# Altium footprint library Isolated DC DC Converters.PcbLib: 6 footprints
Each footprint in its own frame and in the unit in brackets; x right, y up, seen from the top. Pads: shape width x height; smd on the part's side, far side on the other; paste and mask are expansions set on the pad; w line width, h text height; cw(c..) or ccw(c..) is an arc to the next point about the centre after c.
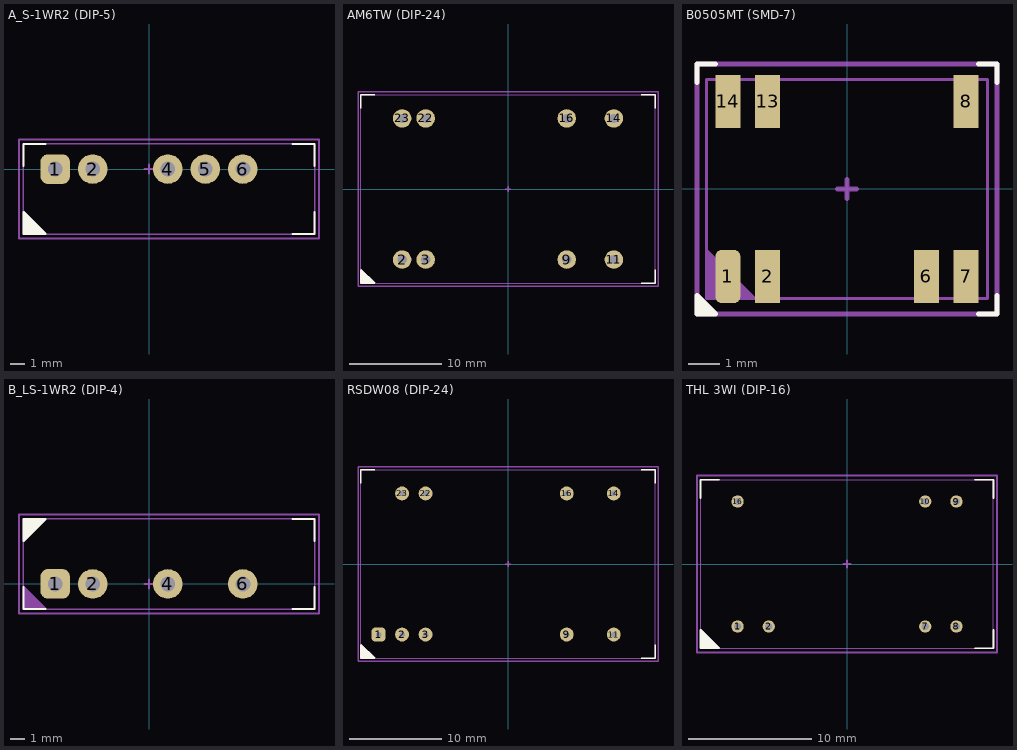
[diagram p0: the footprints below, top view; thin cyan lines are the x and y axes]

## A_S-1WR2 (DIP-5) [mm]
pads (5):
  rrect50% 2x2 hole 1: 1(-6.35,0)
  round 2 hole 1: 2(-3.81,0) 4(1.27,0) 5(3.81,0) 6(6.35,0)
Top Overlay:
  region: -8.5,-2.9 -8.5,-4.4 -7,-4.4
  lines w0.153: -8.5,0.2 -8.5,1.7 -7,1.7 ; 9.7,-4.4 11.2,-4.4 11.2,-2.9 ; 9.7,1.7 11.2,1.7 11.2,0.2 ; -8.5,-4.4 -7,-4.4 -8.5,-2.9 -8.5,-4.4
Top Assembly:
  region: -8.5,-4.4 -6.9,-4.4 -8.5,-2.8
  lines w0.1: -8.5,-4.4 11.2,-4.4 11.2,1.7 -8.5,1.7 -8.5,-4.4
  text "'.Designator'" at -4.532,-0.333 h0.8
Top Courtyard (Mech6):
  lines w0.153: -0.3,0 0.3,0 ; 0,-0.3 0,0.3 ; -8.8,-4.7 11.5,-4.7 11.5,2 -8.8,2 -8.8,-4.7
3D body "WRA_S-1WR2.step": height 9.35, standoff -4.05, extent -8.46,-4.355 11.202,1.654

## AM6TW (DIP-24) [mm]
pads (8):
  round 2 hole 1: 2(-11.43,-7.62) 3(-8.89,-7.62) 9(6.35,-7.62) 11(11.43,-7.62) 14(11.43,7.62) 16(6.35,7.62) 22(-8.89,7.62) 23(-11.43,7.62)
Top Overlay:
  region: -15.9,-8.7 -15.9,-10.2 -14.4,-10.2
  lines w0.153: -15.9,8.7 -15.9,10.2 -14.4,10.2 ; 14.4,-10.2 15.9,-10.2 15.9,-8.7 ; 14.4,10.2 15.9,10.2 15.9,8.7 ; -15.9,-10.2 -14.4,-10.2 -15.9,-8.7 -15.9,-10.2
Top Assembly:
  region: -15.9,-10.2 -14.3,-10.2 -15.9,-8.6
  lines w0.1: -15.9,-10.2 -15.9,10.2 15.9,10.2 15.9,-10.2 -15.9,-10.2
  text "'.Designator'" at -4.532,-0.333 h0.8
Top Courtyard (Mech6):
  lines w0.153: -0.3,0 0.3,0 ; 0,-0.3 0,0.3 ; -16.2,-10.5 16.2,-10.5 16.2,10.5 -16.2,10.5 -16.2,-10.5
3D body "RSDW08.STEP": height 10.2, standoff -3.8, extent -15.9,-10.15 15.9,10.15

## B0505MT (SMD-7) [mm]
pads (7):
  rrect50% 0.8x1.7 smd: 1(-3.81,-2.8)
  rect 0.8x1.7 smd: 2(-2.54,-2.8) 6(2.54,-2.8) 7(3.81,-2.8) 8(3.81,2.8) 13(-2.54,2.8) 14(-3.81,2.8)
Top Overlay:
  region: -4.8,-3.4 -4.8,-4 -4.2,-4
  lines w0.153: -4.8,3.4 -4.8,4 -4.2,4 ; 4.2,-4 4.8,-4 4.8,-3.4 ; 4.2,4 4.8,4 4.8,3.4 ; -4.8,-4 -4.8,-3.4 -4.2,-4 -4.8,-4
Top Assembly:
  region: -4.5,-3.5 -2.9,-3.5 -4.5,-1.9
  lines w0.1: -4.5,-3.5 -4.5,3.5 4.5,3.5 4.5,-3.5 -4.5,-3.5
  text "'.Designator'" at -4.532,-0.333 h0.8
Top Courtyard (Mech6):
  lines w0.153: -0.3,0 0.3,0 ; 0,-0.3 0,0.3 ; -4.8,-4 -4.8,4 4.8,4 4.8,-4 -4.8,-4
3D body "B05xxMT-1WR4.STEP": height 3.07, standoff -0.04, extent -4.501,-3.5 4.5,3.504

## B_LS-1WR2 (DIP-4) [mm]
pads (4):
  rrect50% 2x2 hole 1: 1(-6.35,0)
  round 2 hole 1: 2(-3.81,0) 4(1.27,0) 6(6.35,0)
Top Overlay:
  region: -7,4.4 -8.5,4.4 -8.5,2.9
  lines w0.153: -8.5,-0.2 -8.5,-1.7 -7,-1.7 ; 9.7,-1.7 11.2,-1.7 11.2,-0.2 ; 9.7,4.4 11.2,4.4 11.2,2.9 ; -8.5,2.9 -7,4.4 -8.5,4.4 -8.5,2.9
Top Assembly:
  region: -8.5,-1.7 -6.9,-1.7 -8.5,-0.1
  lines w0.1: -8.5,-1.7 11.2,-1.7 11.2,4.4 -8.5,4.4 -8.5,-1.7
  text "'.Designator'" at -4.532,-0.333 h0.8
Top Courtyard (Mech6):
  lines w0.153: -0.3,0 0.3,0 ; 0,-0.3 0,0.3 ; -8.8,-2 11.5,-2 11.5,4.7 -8.8,4.7 -8.8,-2
3D body "WRA_S-1WR2.step": height 4.1, standoff -9.3, extent -8.46,-1.654 11.202,4.355

## RSDW08 (DIP-24) [mm]
pads (9):
  rrect50% 1.5x1.5 hole 0.6: 1(-13.98,-7.62)
  round 1.5 hole 0.6: 2(-11.44,-7.62) 3(-8.9,-7.62) 9(6.34,-7.62) 11(11.42,-7.62) 14(11.42,7.62) 16(6.34,7.62) 22(-8.9,7.62) 23(-11.44,7.62)
Top Overlay:
  region: -15.9,-8.7 -15.9,-10.2 -14.4,-10.2
  lines w0.153: -15.9,8.7 -15.9,10.2 -14.4,10.2 ; 14.4,-10.2 15.9,-10.2 15.9,-8.7 ; 14.4,10.2 15.9,10.2 15.9,8.7 ; -15.9,-10.2 -14.4,-10.2 -15.9,-8.7 -15.9,-10.2
Top Assembly:
  region: -15.9,-10.2 -14.3,-10.2 -15.9,-8.6
  lines w0.1: -15.9,-10.2 -15.9,10.2 15.9,10.2 15.9,-10.2 -15.9,-10.2
  text "'.Designator'" at -4.532,-0.333 h0.8
Top Courtyard (Mech6):
  lines w0.153: -0.3,0 0.3,0 ; 0,-0.3 0,0.3 ; -16.2,-10.5 16.2,-10.5 16.2,10.5 -16.2,10.5 -16.2,-10.5
3D body "RSDW08.STEP": height 10.2, standoff -3.8, extent -15.9,-10.15 15.9,10.15

## THL 3WI (DIP-16) [mm]
pads (7):
  round 1 hole 0.6: 1(-8.9,-5.08) 2(-6.36,-5.08) 7(6.36,-5.08) 8(8.9,-5.08) 9(8.9,5.08) 10(6.36,5.08) 16(-8.9,5.08)
Top Overlay:
  region: -11.9,-5.35 -11.9,-6.85 -10.4,-6.85
  lines w0.153: -11.9,5.35 -11.9,6.85 -10.4,6.85 ; 10.4,-6.85 11.9,-6.85 11.9,-5.35 ; 10.4,6.85 11.9,6.85 11.9,5.35 ; -11.9,-6.85 -11.9,-5.35 -10.4,-6.85 -11.9,-6.85
Top Assembly:
  region: -11.9,-6.85 -10.3,-6.85 -11.9,-5.25
  lines w0.1: -11.9,-6.85 11.9,-6.85 11.9,6.85 -11.9,6.85 -11.9,-6.85
  text "'.Designator'" at -4.532,-0.333 h0.8
Top Courtyard (Mech6):
  lines w0.153: -0.3,0 0.3,0 ; 0,-0.3 0,0.3 ; -12.2,-7.2 -12.2,7.2 12.2,7.2 12.2,-7.2 -12.2,-7.2
3D body "User Library-THL3-WI.step": height 8.1, standoff -3.5, extent -11.9,-6.85 11.9,6.85